# EAGLE library part M24512-WMW6G (library ST_Microelctronics_By_element14_Batch_1)
512 Kbit serial I²C bus EEPROM with three Chip Enable lines
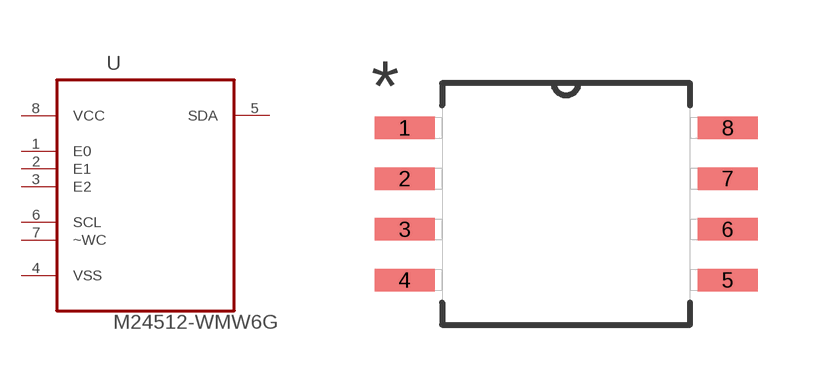
[diagram p141: symbol with the pads of SOIC127P825X250-8N; footprint SOIC127P825X250-8N]

Designator prefix U

## M24512-WMW6G (MPN: M24512-WMW6G; OC_FARNELL: 1099661; OC_NEWARK: 56P9161; PACKAGE: SOIC-8; SUPPLIER: STMICROELECTRONICS)  [SOIC127P825X250-8N]
1  E0  in
2  E1  in
3  E2  in
4  VSS  pas
5  SDA
6  SCL  in
7  ~WC  in
8  VCC  pwr

## Footprint SOIC127P825X250-8N (pad centres in mm)
smd 1.499 x 0.559: 1 -4.039,1.905; 2 -4.039,0.635; 3 -4.039,-0.635; 4 -4.039,-1.905; 5 4.039,-1.905; 6 4.039,-0.635; 7 4.039,0.635; 8 4.039,1.905